# Altium schematic symbol library Miscellaneous Switch.SchLib: 21 symbols
Pins are listed as number, name and electrical type; pins without a type are passive.

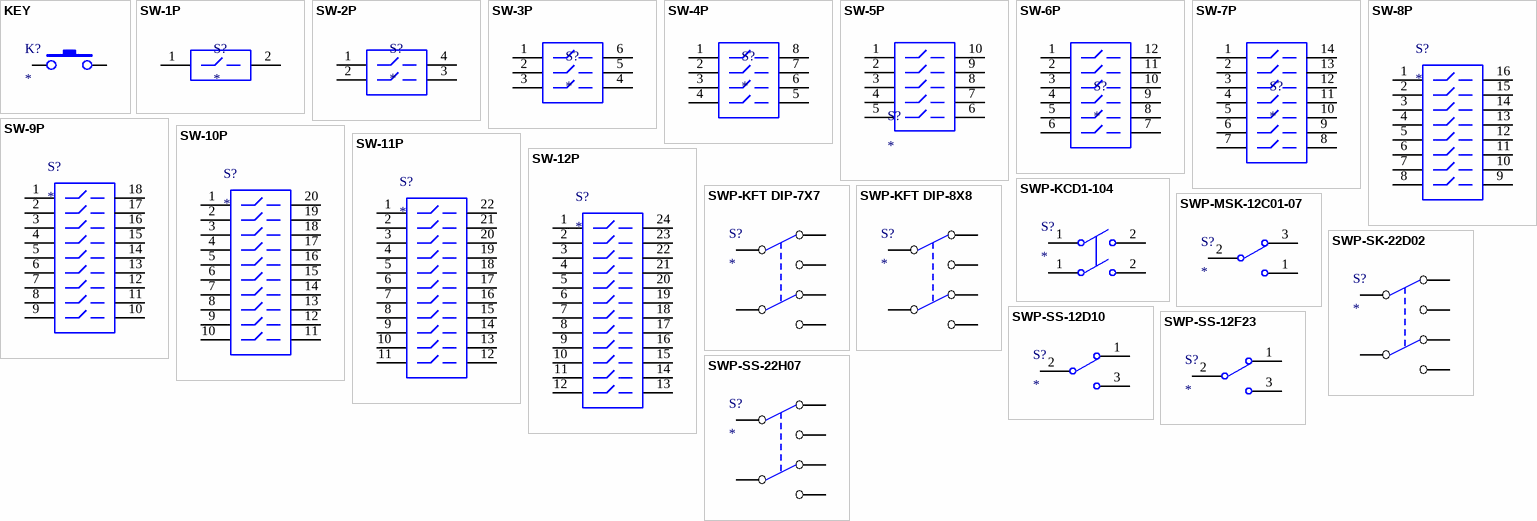
[diagram p0: symbols KEY to SWP-SS-22H07]

## KEY
designator K?
footprint SW-DIP-3X6X4.3
footprint SW-DIP-3X6X4.3_C
footprint SW-DIP-3X6X5
footprint SW-DIP-3X6X5_C
footprint SW-DIP-6X6X4.3
footprint SW-DIP-6X6X4.3_C
footprint SW-DIP-6X6X5
footprint SW-DIP-6X6X5_C
footprint SW-DIP-6X6X5_C
footprint SW-DIP-6X6X6
footprint SW-DIP-6X6X6_C
footprint SW-DIP-6X6X7
footprint SW-DIP-6X6X7_C
footprint SW-DIP-6X6X8
footprint SW-DIP-6X6X8_C
footprint SW-DIP-6X6X9
footprint SW-DIP-6X6X9_C
footprint SW-DIP-6X6X10
footprint SW-DIP-6X6X10_C
footprint SW-DIP-6X6X11
footprint SW-DIP-6X6X11_C
footprint SW-DIP-6X6X12
footprint SW-DIP-6X6X12_C
footprint SW-DIP-6X6X13
footprint SW-DIP-6X6X14 (6*6*14mm)
footprint SW-DIP-6X6X15
footprint SW-DIP-12X12X4.3
footprint SW-DIP-12X12X5
footprint SW-DIP-12X12X6
footprint SW-DIP-12X12X8
footprint SW-DIP-12X12X9
footprint SW-DIP-12X12X10
footprint SW-DIP-12X12X11
footprint SW-DIP-12X12X12
footprint SW-DIP-12X12X13
footprint SW-SMD-3X6X2.5
footprint SW-SMD-3X6X4.3
footprint SW-SMD-3X6X5
footprint SW-SMD-4X4X1.5
footprint SW-SMD-6X6X4.3
footprint SW-SMD-6X6X5
footprint SW-SMD-6X6X6
footprint SW-SMD-6X6X7
footprint SW-SMD-6X6X8
footprint SW-SMD-6X6X9
footprint SW-SMD-6X6X10
footprint SW-SMD-6X6X11
footprint SW-SMD-6X6X12
footprint SW-SMD-6X6X13 (6*6*13mm)
footprint SW-SMD-6X6X14
footprint SW-SMD-6X6X15
footprint SW-SMD-12X12X4.3
footprint SW-SMD-12X12X5
footprint SW-SMD-12X12X6
footprint SW-SMD-12X12X7
footprint SW-SMD-12X12X8 (12*12*8mm)
footprint SW-SMD-12X12X9
footprint SW-SMD-12X12X10
footprint SW-SMD-12X12X11
footprint SW-SMD-12X12X12 (12*12*12mm)
footprint SW-SMD-12X12X13
footprint SW-SMD-2X4
pins: 1, 3

## SW-1P
designator S?
footprint SW-DIP-1P (4.1*9.9*7mm)
footprint SW-DIP-1P_R (4.1*9.9*7mm)
pins: 1 A1, 2

## SW-2P
designator S?
footprint SW-DIP-2P-L
footprint SW-DIP-2P-L2 (Footprint not found)
footprint SW-DIP-2P_R (6.6*9.9*7mm)
footprint SW-DIP-2P (6.6*9.9*7mm)
footprint SW-SMD-2P (长：4.14mm，宽：5.4mm，高：2.3mm)
pins: 1 A1, 2 A2, 3 B2, 4 B1

## SW-3P
designator S?
footprint SW-DIP-Switch3 (Footprint not found)
footprint SW-DIP-3P (9.2*9.9*7mm)
footprint SW-DIP-3P_R (9.2*9.9*7mm)
footprint SW-SMD-3P (长：5.41mm，宽：5.4mm，高：2.3mm)
pins: 1 A1, 2 A2, 3 A3, 4 B3, 5 B2, 6 B1

## SW-4P
designator S?
footprint SW-DIP-4P-L
footprint SW-DIP-4P_R (11.7*9.9*7mm)
footprint SW-DIP-4P (11.7*9.9*7mm)
footprint SW-SMD-4P (长：6.68mm，宽：5.4mm，高：2.3mm)
pins: 1, 2, 3, 4, 5, 6, 7, 8

## SW-5P
designator S?
footprint SW-DIP-5P-L
footprint SW-DIP-5P (14.2*9.9*7mm)
footprint SW-DIP-5P_R (14.2*9.9*7mm)
footprint SW-SMD-5P (长：7.95mm，宽：5.4mm，高：2.3mm)
pins: 1 A1, 2 A2, 3 A3, 4 A4, 5 A5, 6 A6, 7 B6, 8 B5, 9 B4, 10 B3

## SW-6P
designator S?
footprint SW-DIP-6P-L
footprint SW-DIP-6P (16.8*9.9*7mm)
footprint SW-DIP-6P_R (16.8*9.9*7mm)
footprint SW-SMD-6P (长：9.22mm，宽：5.4mm，高：2.3mm)
pins: 1 A1, 2 A2, 3 A3, 4 A4, 5 A5, 6 A6, 7 B6, 8 B5, 9 B4, 10 B3, 11 B2, 12 B1

## SW-7P
designator S?
footprint SW-DIP-7P (19.3*9.9*7mm)
footprint SW-DIP-7P_R (19.3*9.9*7mm)
pins: 1 A1, 2 A2, 3 A3, 4 A4, 5 A5, 6 A6, 7 B6, 8 B5, 9 B4, 10 B3, 11 B2, 12 B1, 13 B2, 14 B3

## SW-8P
designator S?
footprint SW-DIP-8P (21.9*9.9*7mm)
footprint SW-DIP-8P_R (21.9*9.9*7mm)
footprint SMD-8P (长：11.76mm，宽：5.4mm，高：2.3mm)
pins: 1, 2, 3, 4, 5, 6, 7, 8, 9, 10, 11, 12, 13, 14, 15, 16

## SW-9P
designator S?
footprint SW-DIP-9P_R (21.4*9.9*7mm)
footprint SW-DIP-9P (21.4*9.9*7mm)
pins: 1, 2, 3, 4, 5, 6, 7, 8, 9, 10, 11, 12, 13, 14, 15, 16, 17, 18

## SW-10P
designator S?
footprint SW-DIP-10P_R (27*9.9*7mm)
footprint SW-DIP-10P (27*9.9*7mm)
footprint SW-SMD-10P (长：14.3mm，宽：5.4mm，高：2.3mm)
pins: 1, 2, 3, 4, 5, 6, 7, 8, 9, 10, 11, 12, 13, 14, 15, 16, 17, 18, 19, 20

## SW-11P
designator S?
footprint SW-DIP-11P_R (29.5*9.9*7mm)
footprint SW-DIP-11P (29.5*9.9*7mm)
pins: 1, 2, 3, 4, 5, 6, 7, 8, 9, 10, 11, 12, 13, 14, 15, 16, 17, 18, 19, 20, 21, 22

## SW-12P
designator S?
footprint SW-DIP-12P_R (32.1*9.9*7mm)
footprint SW-DIP-12P (32.1*9.9*7mm)
pins: 1, 2, 3, 4, 5, 6, 7, 8, 9, 10, 11, 12, 13, 14, 15, 16, 17, 18, 19, 20, 21, 22, 23, 24

## SWP-KCD1-104
designator S?
footprint SWP-KCD1-104-W
pins: 1, 1, 2, 2

## SWP-KFT DIP-7X7
designator S?
footprint SWP-KFT DIP-7X7
pins: 1, 2, 3, 4, 5, 6

## SWP-KFT DIP-8X8
designator S?
footprint SWP-KFT DIP-8X8
pins: 1, 2, 3, 4, 5, 6

## SWP-MSK-12C01-07
designator S?
footprint SWP-MSK-12C01-07
pins: 1, 2, 3

## SWP-SK-22D02
designator S?
footprint SWP-SK-22D02
pins: 1, 2, 3, 4, 5, 6

## SWP-SS-12D10
designator S?
footprint SWP-SS-12D10
pins: 1, 2, 3

## SWP-SS-12F23
designator S?
footprint SWP-SS-12F23
pins: 1, 2, 3

## SWP-SS-22H07
designator S?
footprint SWP-SS-22H07-G2
footprint SWP-SS-22H07-G3
footprint SWP-SS-22H07-G4
footprint SWP-SS-22H07-G5
footprint SWP-SS-22H07-G6
footprint SWP-SS-22H07-G7
footprint SWP-SS-22H07-G8
footprint SWP-SS-22H07-G9
pins: 1, 2, 3, 4, 5, 6